# Altium schematic symbol library IPD068P03L3_G.SchLib: 1 symbol
Pins are listed as number, name and electrical type; pins without a type are passive.

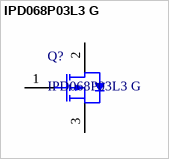
[diagram p0: symbol IPD068P03L3 G]

## IPD068P03L3 G
designator Q?
P-Channel OptiMOS P3 Power-Transistor, -30 V VDS, -70 A ID, -55 to 175 degC, PG-TO252-3-1, Reel, Green; Manufacturer: Infineon; VGS(th) (min): -1Â V; RDS (on) (max): 6.8Â mOhm; Pto t (max): 100Â W; RDS (on) (max) (@4.5V): 11Â mOhm; VGS(th) (max): -2Â V; VDS (max): -30Â V; Green: TRUE; ID (max): -70Â A; IDpuls (max): -280Â A; Rth: 1.5Â K/W; RthJC (max): 1.5 K/W; QG: 68Â nC; PartNumber: IPD068P03L3 G; ComponentLink1Description: Manufacturer URL; ComponentLink2Description: Datasheet; DatasheetVersion: Rev. 2.0; ComponentLink3URL: http://www.infineon.com/dgdl/TLE42744_DS_11.pdf?folderId=db3a304318f3fe290118f5a433570040&fileId=db3a304327b897500128012ccafe37d2&sId=db3a30443d67b5ca013d83f7c0ea327b; ComponentLink1URL: http://www.infineon.com/; Packing: Reel; ComponentLink2URL: http://www.infineon.com/dgdl/IPD068P03L3+G_2+0.pdf?folderId=db3a304314dca38901154a7313d21a66&fileId=db3a30432313ff5e01232cc234f07d94; ComponentLink3Description: Package Specification; PackageVersion: Jan-10; Mounting Technology: Surface Mount; PackageReference: PG-TO252-3-1; PackageDescription: 3-Pin Plastic (Green) Transistor Single Outline Package, 6.5 x 6.12 mm Body, 2.28 mm Pitch
footprint INF-PG-TO252-3-1_M (DPAK, 3-Leads, Body 6.525x6.12mm, Pitch 2.28mm, IPC Low Density)
pins: 1 GATE, 2 DRAIN, 3 SOURCE